# Altium footprint library PcbLib1.PcbLib: 2 footprints
Each footprint in its own frame and in the unit in brackets; x right, y up, seen from the top. Pads: shape width x height; smd on the part's side, far side on the other; paste and mask are expansions set on the pad; w line width, h text height; cw(c..) or ccw(c..) is an arc to the next point about the centre after c.
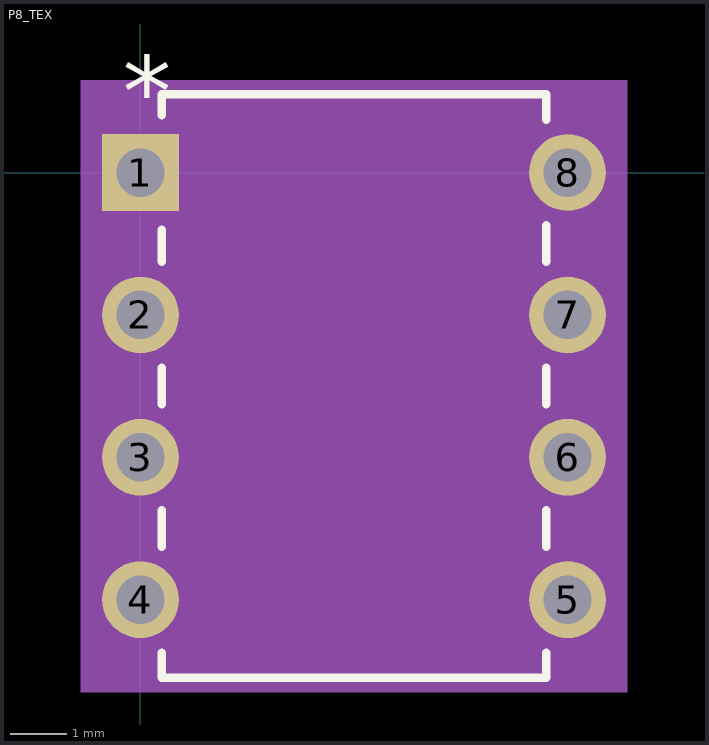
[diagram p0: the footprints below, top view; thin cyan lines are the x and y axes]

## P8_TEX [mil]
pads (8):
  rect 54x54 hole 34 mask+0: 1(0,0)
  round 54 hole 34 mask+0: 2(0,-100) 3(0,-200) 4(0,-300) 5(300,-300) 6(300,-200) 7(300,-100) 8(300,0)
Top Overlay:
  lines w6: 15,-337.19 15,-355 285,-355 285,-337.19 ; 15,-262.81 15,-237.19 ; 15,-162.81 15,-137.19 ; 15,-62.81 15,-40.1 ; 15,40.1 15,55 285,55 285,37.19 ; 285,-262.81 285,-237.19 ; 285,-162.81 285,-137.19 ; 285,-62.81 285,-37.19
  text "*" at -12.5,32 h50
Mechanical 5:
  region: 342,-365 -42,-365 -42,65 342,65
Mechanical 13:
  lines w0: 138,50 ccw(c150,50) 162,50
  lines w1: -17,-317 20,-317 20,-283 -17,-283 -17,-317 ; -17,-217 20,-217 20,-183 -17,-183 -17,-217 ; -17,-117 20,-117 20,-83 -17,-83 -17,-117 ; -17,-17 20,-17 20,17 -17,17 -17,-17 ; 20,-350 20,50 280,50 280,-350 20,-350 ; 280,-317 317,-317 317,-283 280,-283 280,-317 ; 280,-217 317,-217 317,-183 280,-183 280,-217 ; 280,-117 317,-117 317,-83 280,-83 280,-117 ; 280,-17 317,-17 317,17 280,17 280,-17
  text "*" at 17.5,-25 h50
Mechanical 15:
  region: 290,-340 337,-340 337,40 290,40 290,60 10,60 10,40 -37,40 -37,-340 10,-340 10,-360 290,-360
  lines w6: -37,-340 10,-340 10,-360 290,-360 290,-340 337,-340 337,40 290,40 290,60 10,60 10,40 -37,40 -37,-340
3D body "P8_TEX.step": height 205.12, standoff -100, extent -5,-350 315,50

## PCBComponent_1 [mil]